# Altium schematic symbol library TPS74801.SchLib: 1 symbol
Pins are listed as number, name and electrical type; pins without a type are passive.

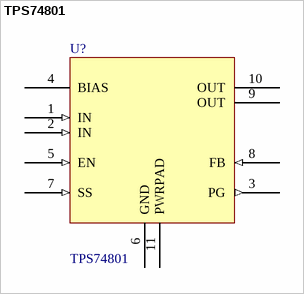
[diagram p0: symbol TPS74801]

## TPS74801
designator U?
pins: 1 IN (in), 2 IN (in), 3 PG (out), 4 BIAS (power), 5 EN (in), 6 GND (power), 7 SS (in), 8 FB (in), 9 OUT (power), 10 OUT (power), 11 PWRPAD